# EAGLE library part BME280 (library ck)
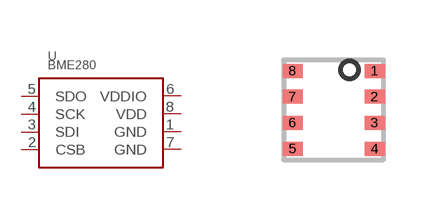
[diagram p21: symbol with the pads of BME280; footprint BME280]

Designator prefix -

## BME280  [BME280]
1  GND
2  CSB
3  SDI
4  SCK
5  SDO
6  VDDIO
7  GND
8  VDD

## Footprint BME280 (pad centres in mm)
smd 0.5 x 0.35: 1 1.025,0.975; 2 1.025,0.326; 3 1.025,-0.325; 4 1.025,-0.975; 5 -1.025,-0.975; 6 -1.025,-0.325; 7 -1.025,0.326; 8 -1.025,0.975